# Altium schematic symbol library SCH - POWER - LINEAR VREG - TI UCC3813-2_P_8.SchLib: 1 symbol
Pins are listed as number, name and electrical type; pins without a type are passive.

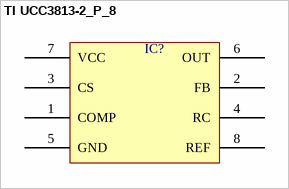
[diagram p0: symbol TI UCC3813-2_P_8]

## TI UCC3813-2_P_8
designator IC?  (value not drawn)
pins: 1 COMP, 2 FB, 3 CS, 4 RC, 5 GND, 6 OUT, 7 VCC, 8 REF